# EAGLE library part S1G10_JUMP (library #PaJa_konektory)
Radove konektory - koliky - 10x
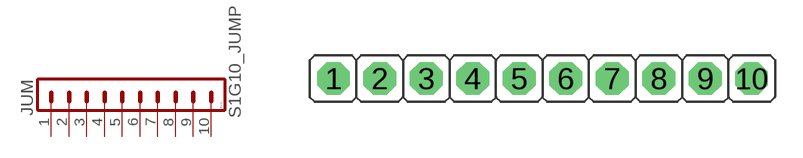
[diagram p23: symbol with the pads of S1G10_JU; footprint S1G10_JU]

Designator prefix JUM

## S1G10_JUMP  [S1G10_JU]
1  1  pas
2  2  pas
3  3  pas
4  4  pas
5  5  pas
6  6  pas
7  7  pas
8  8  pas
9  9  pas
10  10  pas

## Footprint S1G10_JU (pad centres in mm)
drill 1.016 pad 1.778 octagon: 1 -11.43,0; 2 -8.89,0; 3 -6.35,0; 4 -3.81,0; 5 -1.27,0; 6 1.27,0; 7 3.81,0; 8 6.35,0; 9 8.89,0; 10 11.43,0